# Altium schematic symbol library TCXO_TXC_7Q-16.368MBG-T.SchLib: 1 symbol
Pins are listed as number, name and electrical type; pins without a type are passive.

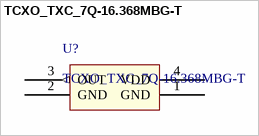
[diagram p0: symbol TCXO_TXC_7Q-16.368MBG-T]

## TCXO_TXC_7Q-16.368MBG-T
designator U?
pins: 1 GND (power), 2 GND (power), 3 OUT (out), 4 VDD (power)